# Altium footprint library B-NT_RLC.PcbLib: 48 footprints (part 1 of 3)
Each footprint in its own frame and in the unit in brackets; x right, y up, seen from the top. Pads: shape width x height; smd on the part's side, far side on the other; paste and mask are expansions set on the pad; w line width, h text height; cw(c..) or ccw(c..) is an arc to the next point about the centre after c.
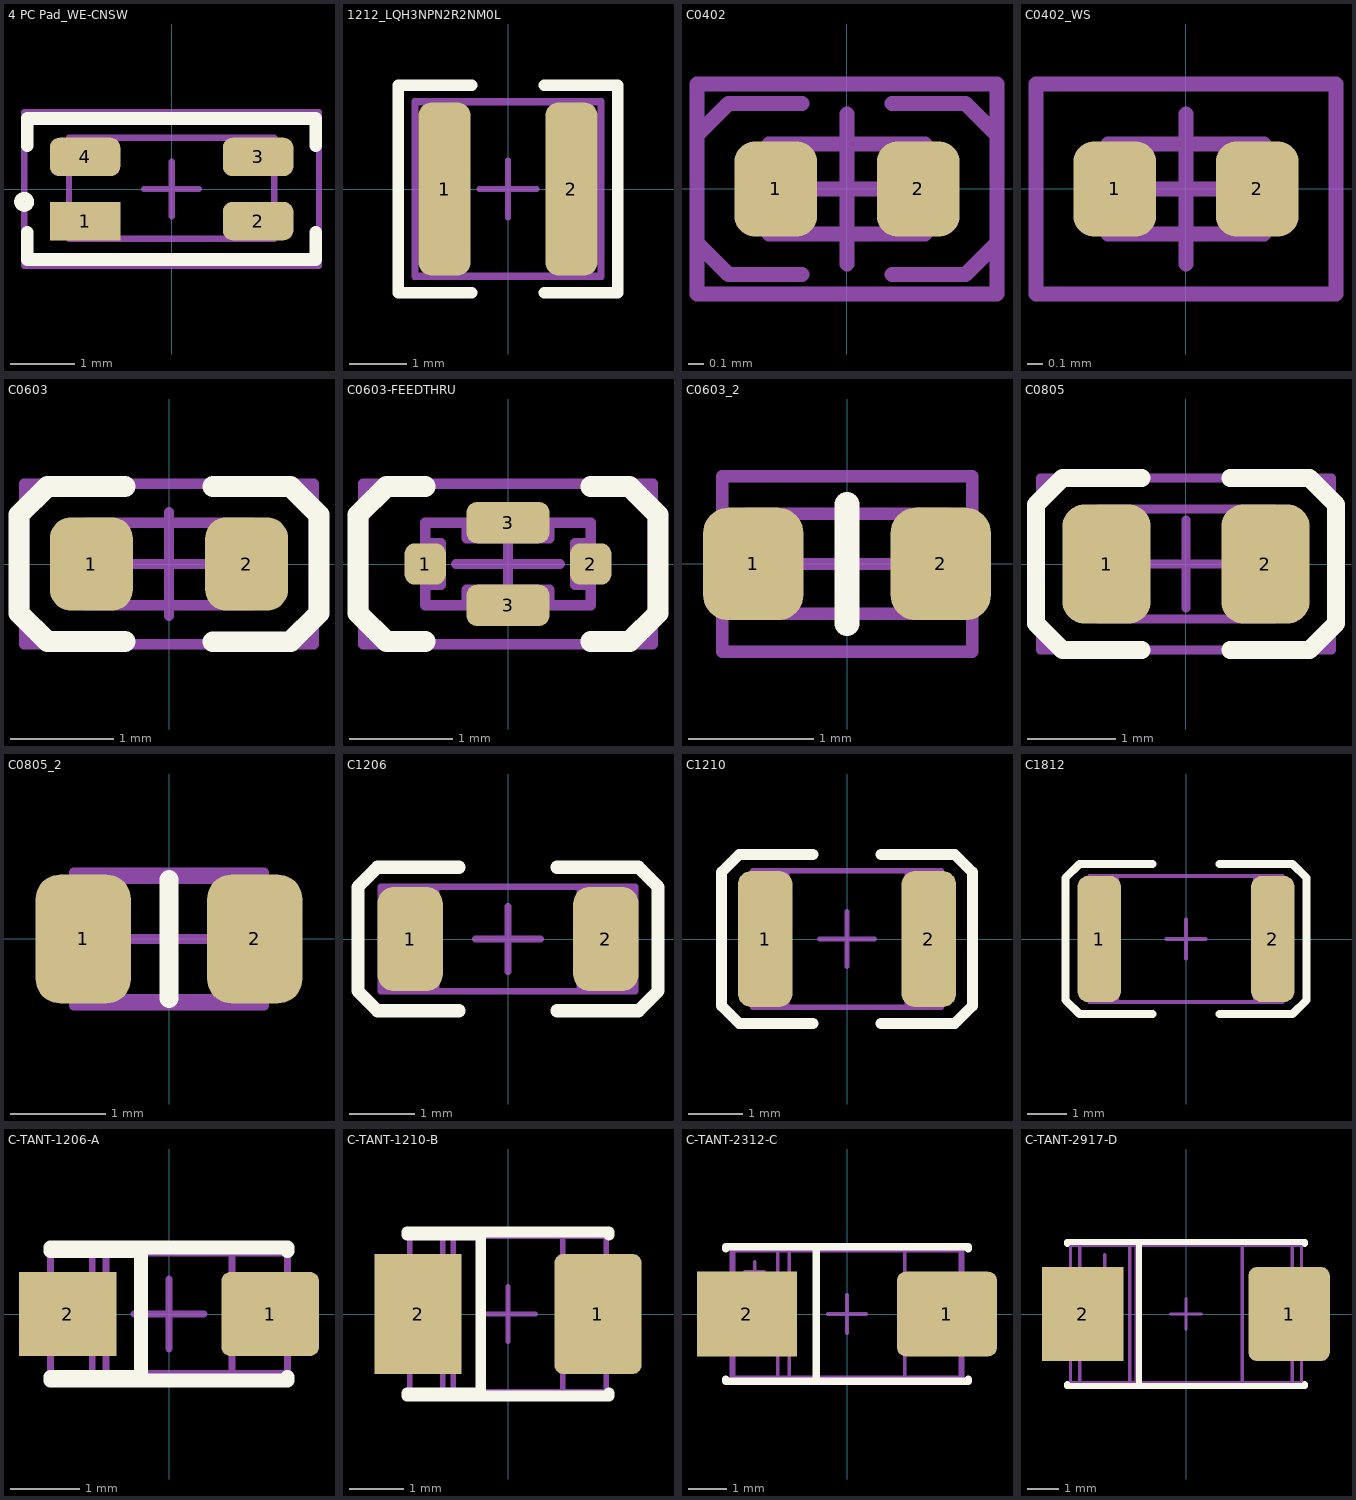
[diagram p0: the footprints below, top view; thin cyan lines are the x and y axes]

## 4 PC Pad_WE-CNSW [mm] "Body 3.20mm x 1.60mm"
height 2.1
pads (4):
  rect 1.1x0.6 smd: 1(-1.35,-0.5)
  rrect50% 1.1x0.6 smd: 2(1.35,-0.5) 3(1.35,0.5) 4(-1.35,0.5)
Top Overlay:
  circle w0.15: c-2.3,-0.2 r0.08
  lines w0.2: -2.25,-0.675 -2.25,-1.1 2.25,-1.1 2.25,-0.675 ; -2.25,0.675 -2.25,1.1 2.25,1.1 2.25,0.675
M3 Top Assy:
  lines w0.1: -1.6,-0.775 -1.6,0.8 1.6,0.8 1.6,-0.775 -1.6,-0.775
M8 Top Brd Anno:
  lines w0.1: -0.425,0 0.425,0 ; 0,-0.425 0,0.425 ; -2.3,-1.2 -2.3,1.2 2.3,1.2 2.3,-1.2 -2.3,-1.2
3D body "STEP-WE-CNSW-1206-rev1.stp": height 1.83, standoff -0.07, extent -1.6,-0.8 1.6,0.8

## 1212_LQH3NPN2R2NM0L [mm]
pads (2):
  rrect50% 0.9x3 smd: 1(-1.1,0) 2(1.1,0)
Top Overlay:
  lines w0.2: -0.625,-1.8 -1.9,-1.8 -1.9,1.8 -0.625,1.8 ; 0.625,-1.8 1.9,-1.8 1.9,1.8 0.625,1.8
M3 Top Assy:
  lines w0.1: -1.1,-1.5 -1.1,1.5 ; 1.1,-1.5 1.1,1.5 ; -1.6,-1.5 1.6,-1.5 1.6,1.5 -1.6,1.5 -1.6,-1.5
M8 Top Brd Anno:
  lines w0.1: -0.5,0 0.5,0 ; 0,-0.5 0,0.5 ; -1.625,-1.525 1.625,-1.525 1.625,1.525 -1.625,1.525 -1.625,-1.525
3D body "LQH3NPN2R2NM0L.STEP": height 1.5, standoff 0, extent -1.5,-1.5 1.5,1.5

## C0402 [mm]
pads (2):
  rrect50% 0.55x0.635 smd: 1(-0.475,0) 2(0.475,0)
M3 Top Assy:
  lines w0.1: -0.3,-0.3 -0.3,0.3 ; 0.3,-0.3 0.3,0.3 ; -0.52,-0.3 0.52,-0.3 0.52,0.3 -0.52,0.3 -0.52,-0.3
M6 Top Assy Anno:
  lines w0.1: -0.3,-0.57 -0.79,-0.57 -1,-0.36 -1,0.36 -0.79,0.57 -0.3,0.57 ; 0.3,-0.57 0.79,-0.57 1,-0.36 1,0.36 0.79,0.57 0.3,0.57
M8 Top Brd Anno:
  lines w0.1: -0.5,0 0.5,0 ; 0,-0.5 0,0.5 ; -1,-0.7 -1,0.7 1,0.7 1,-0.7 -1,-0.7
3D body "User Library-0402 SMD Capacitor.step": height 0.12, standoff -0.08, extent -0.5,-0.3 0.5,0.3

## C0402_WS [mm]
pads (2):
  rrect50% 0.55x0.635 smd: 1(-0.475,0) 2(0.475,0)
M3 Top Assy:
  lines w0.1: -0.3,-0.3 -0.3,0.3 ; 0.3,-0.3 0.3,0.3 ; -0.52,-0.3 0.52,-0.3 0.52,0.3 -0.52,0.3 -0.52,-0.3
M8 Top Brd Anno:
  lines w0.1: -0.5,0 0.5,0 ; 0,-0.5 0,0.5 ; -1,-0.7 -1,0.7 1,0.7 1,-0.7 -1,-0.7
3D body "User Library-0402 SMD Capacitor.step": height 0.12, standoff -0.08, extent -0.5,-0.3 0.5,0.3

## C0603 [mm]
pads (2):
  rrect50% 0.8x0.9 smd: 1(-0.75,0) 2(0.75,0)
Top Overlay:
  lines w0.2: -0.425,-0.75 -1.175,-0.75 -1.45,-0.475 -1.45,0.475 -1.175,0.75 -0.425,0.75 ; 0.425,-0.75 1.175,-0.75 1.45,-0.475 1.45,0.475 1.175,0.75 0.425,0.75
M3 Top Assy:
  lines w0.1: -0.5,-0.4 -0.5,0.4 ; 0.5,-0.4 0.5,0.4 ; -0.8,-0.4 -0.8,0.4 0.8,0.4 0.8,-0.4 -0.8,-0.4
M8 Top Brd Anno:
  lines w0.1: -0.5,0 0.5,0 ; 0,-0.5 0,0.5 ; -1.4,-0.775 -1.4,0.775 1.4,0.775 1.4,-0.775 -1.4,-0.775
3D body "C-0603.STEP": height 0.22, standoff -0.08, extent -0.8,-0.4 0.8,0.4

## C0603-FEEDTHRU [mm]
pads (4):
  rrect50% 0.4x0.4 smd: 1(-0.8,0) 2(0.8,0)
  rrect50% 0.8x0.4 smd: 3(0,-0.4) 3(0,0.4)
Top Overlay:
  lines w0.2: -0.8,-0.75 -1.175,-0.75 -1.45,-0.475 -1.45,0.475 -1.175,0.75 -0.8,0.75 ; 0.8,-0.75 1.175,-0.75 1.45,-0.475 1.45,0.475 1.175,0.75 ; 0.8,0.75 1.175,0.75
M3 Top Assy:
  lines w0.1: -0.8,-0.2 -0.65,-0.2 -0.65,0.2 -0.8,0.2 ; -0.4,-0.4 -0.4,-0.25 0.4,-0.25 0.4,-0.4 ; -0.4,0.4 -0.4,0.25 0.4,0.25 0.4,0.4 ; 0.8,-0.2 0.65,-0.2 0.65,0.2 0.8,0.2 ; -0.8,-0.4 -0.8,0.4 0.8,0.4 0.8,-0.4 -0.8,-0.4
M8 Top Brd Anno:
  lines w0.1: -0.5,0 0.5,0 ; 0,-0.5 0,0.5 ; -1.4,-0.775 1.4,-0.775 1.4,0.775 -1.4,0.775 -1.4,-0.775
3D body "C0603-FEEDTHRU.STEP": height 0.6, standoff 0, extent -0.8,-0.4 0.8,0.4

## C0603_2 [mm]
pads (2):
  rrect50% 0.8x0.9 smd: 1(-0.75,0) 2(0.75,0)
Top Overlay:
  lines w0.2: 0,-0.475 0,0.475
M3 Top Assy:
  lines w0.1: -0.5,-0.4 -0.5,0.4 ; 0.5,-0.4 0.5,0.4 ; -0.8,-0.4 -0.8,0.4 0.8,0.4 0.8,-0.4 -0.8,-0.4
M8 Top Brd Anno:
  lines w0.1: -0.5,0 0.5,0 ; 0,-0.5 0,0.5 ; -1,-0.7 1,-0.7 1,0.7 -1,0.7 -1,-0.7
3D body "C-0603.STEP": height 0.22, standoff -0.08, extent -0.8,-0.4 0.8,0.4

## C0805 [mm]
pads (2):
  rrect50% 1x1.35 smd: 1(-0.9,0) 2(0.9,0)
Top Overlay:
  lines w0.2: -0.5,-0.975 -1.4,-0.975 -1.7,-0.675 -1.7,0.675 -1.4,0.975 -0.5,0.975 ; 0.5,-0.975 1.4,-0.975 1.7,-0.675 1.7,0.675 1.4,0.975 0.5,0.975
M3 Top Assy:
  lines w0.1: -0.6,-0.625 -0.6,0.625 ; 0.6,-0.625 0.6,0.625 ; -1,-0.625 -1,0.625 1,0.625 1,-0.625 -1,-0.625
M8 Top Brd Anno:
  lines w0.1: -0.5,0 0.5,0 ; 0,-0.5 0,0.5 ; -1.65,-0.975 -1.65,0.975 1.65,0.975 1.65,-0.975 -1.65,-0.975
3D body "C-0805.STEP": height 0.7, standoff -0.08, extent -1,-0.625 1,0.625

## C0805_2 [mm]
pads (2):
  rrect50% 1x1.35 smd: 1(-0.9,0) 2(0.9,0)
Top Overlay:
  lines w0.2: 0,-0.625 0,0.625
M3 Top Assy:
  lines w0.1: -0.6,-0.625 -0.6,0.625 ; 0.6,-0.625 0.6,0.625 ; -1,-0.625 1,-0.625 1,0.625 -1,0.625 -1,-0.625
M8 Top Brd Anno:
  lines w0.1: -0.5,0 0.5,0 ; 0,-0.5 0,0.5 ; -1,-0.7 -1,0.7 1,0.7 1,-0.7 -1,-0.7
3D body "C-0805.STEP": height 0.7, standoff -0.08, extent -1,-0.625 1,0.625

## C1206 [mm]
pads (2):
  rrect50% 1x1.6 smd: 1(-1.5,0) 2(1.5,0)
Top Overlay:
  lines w0.2: -0.75,-1.1 -2,-1.1 -2.3,-0.8 -2.3,0.8 -2,1.1 -0.75,1.1 ; 0.75,-1.1 2,-1.1 2.3,-0.8 2.3,0.8 2,1.1 0.75,1.1
M3 Top Assy:
  lines w0.1: -1.1,-0.8 -1.1,0.8 ; 1.1,-0.8 1.1,0.8 ; -1.6,-0.8 1.6,-0.8 1.6,0.8 -1.6,0.8 -1.6,-0.8
M8 Top Brd Anno:
  lines w0.1: -0.5,0 0.5,0 ; 0,-0.5 0,0.5 ; -1.95,-0.8 -1.95,0.8 1.95,0.8 1.95,-0.8 -1.95,-0.8
3D body "C-1206.STEP": height 1, standoff 0, extent -1.6,-0.8 1.6,0.8

## C1210 [mm]
pads (2):
  rrect50% 1x2.5 smd: 1(-1.5,0) 2(1.5,0)
Top Overlay:
  lines w0.2: -0.625,-1.55 -1.975,-1.55 -2.3,-1.225 -2.3,1.225 -1.975,1.55 -0.625,1.55 ; 0.625,-1.55 1.975,-1.55 2.3,-1.225 2.3,1.225 1.975,1.55 0.625,1.55
M3 Top Assy:
  lines w0.1: -1.1,-1.25 -1.1,1.25 ; 1.1,-1.25 1.1,1.25 ; -1.6,-1.25 -1.6,1.25 1.6,1.25 1.6,-1.25 -1.6,-1.25
M8 Top Brd Anno:
  lines w0.1: -0.5,0 0.5,0 ; 0,-0.5 0,0.5 ; -1.725,-1.25 1.725,-1.25 1.725,1.25 -1.725,1.25 -1.725,-1.25
3D body "User Library-CAPC3225X10.STEP": height 1, standoff 0, extent -1.6,-1.25 1.6,1.25

## C1812 [mm]
pads (2):
  rrect50% 1.1x3.2 smd: 1(-2.2,0) 2(2.2,0)
Top Overlay:
  lines w0.2: -0.85,-1.9 -2.7,-1.9 -3.05,-1.55 -3.05,1.55 -2.7,1.9 -0.85,1.9 ; 0.85,-1.9 2.7,-1.9 3.05,-1.55 3.05,1.55 2.7,1.9 0.85,1.9
M3 Top Assy:
  lines w0.1: -1.75,-1.6 -1.75,1.6 ; 1.75,-1.6 1.75,1.6 ; -2.25,-1.6 -2.25,1.6 2.25,1.6 2.25,-1.6 -2.25,-1.6
M8 Top Brd Anno:
  lines w0.1: -0.5,0 0.5,0 ; 0,-0.5 0,0.5 ; -2.45,-1.6 2.45,-1.6 2.45,1.6 -2.45,1.6 -2.45,-1.6
3D body "SW3dPS-1812 SMD Capacitor.STEP": height 1.55, standoff -0.05, extent -2.25,-1.6 2.25,1.6

## C-TANT-1206-A [mm]
pads (2):
  rrect20% 1.4x1.2 smd: 1(1.45,0)
  rect 1.4x1.2 smd: 2(-1.45,0)
Top Overlay:
  lines w0.2: -1.7,-0.95 1.7,-0.95 1.7,-0.9 ; -1.7,-0.9 -0.4,-0.9 -0.4,0.9 -1.7,0.9 ; -1.7,0.95 1.7,0.95 1.7,0.9
M3 Top Assy:
  lines w0.1: -1.1,-0.85 -1.1,0.85 ; -0.9,-0.85 -0.9,0.85 ; 0.9,-0.9 0.9,0.9 ; -1.7,-0.9 -1.7,0.9 1.7,0.9 1.7,-0.9 -1.7,-0.9
M8 Top Brd Anno:
  lines w0.1: -0.5,0 0.5,0 ; 0,-0.5 0,0.5 ; -1.7,-0.85 -1.7,0.875 1.7,0.875 1.7,-0.85 -1.7,-0.85
3D body "User Library-AVX_ACASE.step": height 1.71, standoff 0, extent -1.7,-0.84 1.7,0.84

## C-TANT-1210-B [mm]
pads (2):
  rrect20% 1.6x2.2 smd: 1(1.65,0)
  rect 1.6x2.2 smd: 2(-1.65,0)
Top Overlay:
  lines w0.2: -1.85,-1.5 1.85,-1.5 1.85,-1.45 ; -1.85,-1.45 -0.5,-1.45 -0.5,1.45 -1.85,1.45 ; -1.85,1.5 1.85,1.5 1.85,1.45
M3 Top Assy:
  lines w0.1: -1.2,-1.5 -1.2,1.5 ; -1,-1.5 -1,1.5 ; 1,-1.5 1,1.5 ; -1.8,-1.5 1.8,-1.5 1.8,1.5 -1.8,1.5 -1.8,-1.5
M8 Top Brd Anno:
  lines w0.1: -0.5,0 0.5,0 ; 0,-0.5 0,0.5 ; -1.8,-1.425 -1.8,1.425 1.8,1.425 1.8,-1.425 -1.8,-1.425
3D body "User Library-AVX_BCASE.step": height 2.03, standoff 0, extent -1.85,-1.465 1.85,1.465

## C-TANT-2312-C [mm]
pads (2):
  rrect20% 2.6x2.2 smd: 1(2.6,0)
  rect 2.6x2.2 smd: 2(-2.6,0)
Top Overlay:
  lines w0.2: -3.15,-1.7 -3.15,-1.75 3.15,-1.75 3.15,-1.7 ; -3.15,1.7 -3.15,1.75 3.15,1.75 3.15,1.7 ; -0.8,-1.75 -0.8,1.75
M3 Top Assy:
  lines w0.1: -2.65,1.1 -2.15,1.1 ; -2.4,0.85 -2.4,1.35 ; -1.8,-1.7 -1.8,1.7 ; -1.5,-1.7 -1.5,1.7 ; 1.5,-1.7 1.5,1.7 ; -3,-1.7 3,-1.7 3,1.7 -3,1.7 -3,-1.7
M8 Top Brd Anno:
  lines w0.1: -0.5,0 0.5,0 ; 0,-0.5 0,0.5 ; -2.95,-1.65 -2.95,1.65 2.95,1.65 2.95,-1.65 -2.95,-1.65
3D body "User Library-AVX_C_CASE.step": height 2.7, standoff 0, extent -3.05,-1.675 3.05,1.675

## C-TANT-2917-D [mm]
pads (2):
  rrect20% 2.6x3 smd: 1(3.3,0)
  rect 2.6x3 smd: 2(-3.3,0)
Top Overlay:
  lines w0.2: -3.8,-2.25 -3.8,-2.3 3.8,-2.3 3.8,-2.25 ; -3.8,2.25 -3.8,2.3 3.8,2.3 3.8,2.25 ; -1.5,-2.3 -1.5,2.3
M3 Top Assy:
  lines w0.1: -3.4,-1 -3.8,-1 -3.8,1.1 -3.4,1.1 ; -3.1,1.4 -2.6,1.4 ; -2.6,0.9 -2.6,1.4 ; -2.6,1.9 -2.6,1.4 ; -2.1,1.4 -2.6,1.4 ; -1.8,-2.2 -1.8,2.2 ; -1.6,-2.2 -1.6,2.2 ; 1.8,-2.2 1.8,2.2 ; 3.4,-1.1 3.8,-1.1 3.8,1 3.4,1 ; -3.4,-2.2 3.4,-2.2 3.4,2.2 -3.4,2.2 -3.4,-2.2
M8 Top Brd Anno:
  lines w0.1: -0.5,0 0.5,0 ; 0,-0.5 0,0.5 ; -3.7,-2.2 -3.7,2.2 3.7,2.2 3.7,-2.2 -3.7,-2.2
3D body "User Library-AVX_D_CASE.step": height 3.01, standoff 0, extent -3.7,-2.225 3.7,2.225